# EAGLE library part 4045 (library pedals-40xx-2)
21 -Stage Counter Source: www.radanpro.com/el/datasheets_cmos.htm cd_4045.pdf Type Manufatk. 4045BDC FCH 4045BDM FCH 40458BFC FCH 4045BFM FCH 4045BPC FCH CD4045AD RCA CD4045AE RCA CD4045AF RCA CD4045AH RCA CD4045AK RCA CD4045BD RCA CD4045BE RCA CD4045BF RCA CD4045BH RCA CD045BK SCA HCC4045BD SCA HCC4045BF SGS HCC4045BK SGS HCF4045BE SGS HCF4045BF SGS
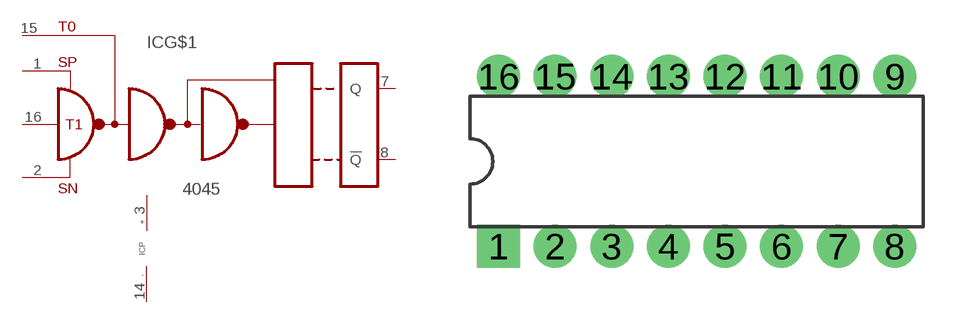
[diagram p83: symbol with the pads of DIL16; footprint DIL16]

Designator prefix IC; gates G$1=4045 P=PWRN

## 4045  [DIL16]
1  G$1:SP  in
2  G$1:SN  in
3  P:VDD  pwr
7  G$1:Q  in
8  G$1:!Q  in
14  P:VSS  pwr
15  G$1:T0  in
16  G$1:T1  in

## Footprint DIL16 (pad centres in mm)
Dual In Line Package
drill 1 pad 1.93 square: 1 -8.89,-3.81
drill 1 pad 1.93: 2 -6.35,-3.81; 3 -3.81,-3.81; 4 -1.27,-3.81; 5 1.27,-3.81; 6 3.81,-3.81; 7 6.35,-3.81; 8 8.89,-3.81; 9 8.89,3.81; 10 6.35,3.81; 11 3.81,3.81; 12 1.27,3.81; 13 -1.27,3.81; 14 -3.81,3.81; 15 -6.35,3.81; 16 -8.89,3.81